# EAGLE library part DPDT_SWITCH (library USB_Charger)
Digikey Part# SW342-ND
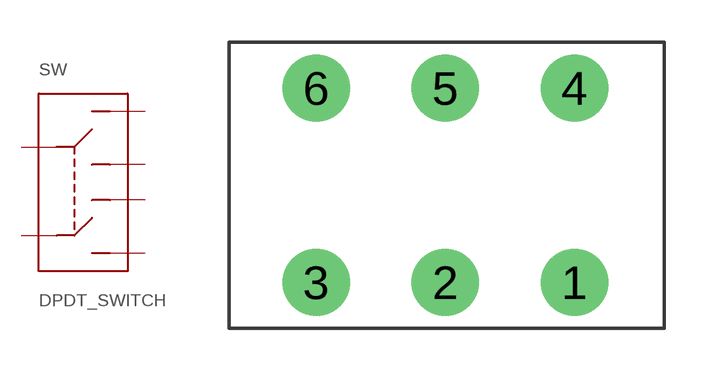
[diagram p1: symbol with the pads of GF-126-0159; footprint GF-126-0159]

Designator prefix SW

## DPDT_SWITCH  [GF-126-0159]
1  1
2  2
3  3
4  4
5  5
6  6

## Footprint GF-126-0159 (pad centres in mm)
Digikey Part# SW342-ND
drill 1.6: 1 4.6,-3.46; 2 0,-3.46; 3 -4.6,-3.46; 4 4.6,3.46; 5 0,3.46; 6 -4.6,3.46